# Altium schematic symbol library 1N4148WS-HG3-08.SchLib: 1 symbol
Pins are listed as number, name and electrical type; pins without a type are passive.

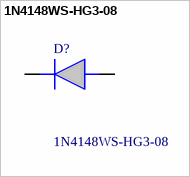
[diagram p0: symbol 1N4148WS-HG3-08]

## 1N4148WS-HG3-08
designator D?
Diodes - General Purpose, Power, Switching 1V Vf, 4pF; 25nA Ir SOD-323; Manufacturer_Name: Vishay; Geometry.Height: 1.15mm; Mouser Part Number: 78-1N4148WS-HG3-08; Mouser Price/Stock: https://www.mouser.co.uk/ProductDetail/Vishay-Semiconductors/1N4148WS-HG3-08?qs=MLItCLRbWsz%2FnO5zs5RZvA%3D%3D; Manufacturer_Part_Number: 1N4148WS-HG3-08; Datasheet Link: *
footprint SOD2713X115N
pins: 1 K, 2 A